# Altium footprint library PCB1.PcbLib: 50 footprints (part 3 of 4)
Each footprint in its own frame and in the unit in brackets; x right, y up, seen from the top. Pads: shape width x height; smd on the part's side, far side on the other; paste and mask are expansions set on the pad; w line width, h text height; cw(c..) or ccw(c..) is an arc to the next point about the centre after c.
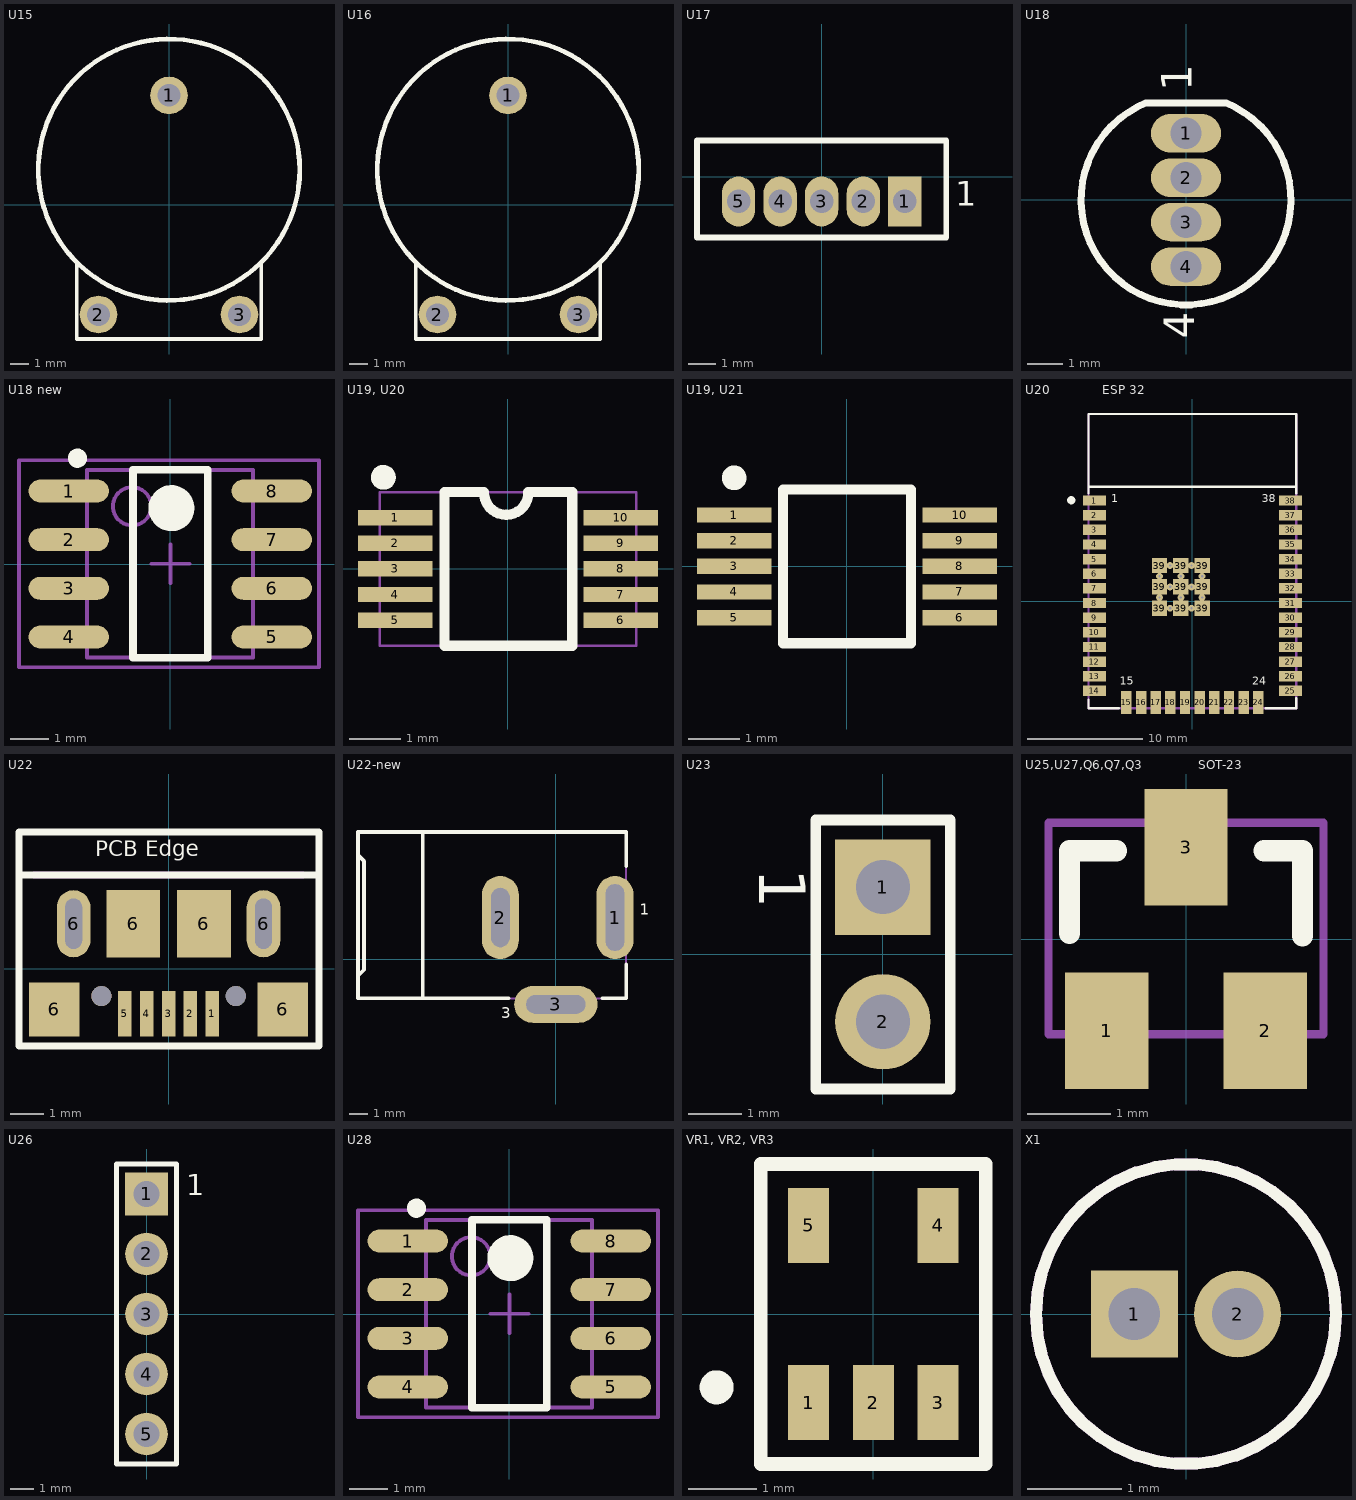
[diagram p2: the footprints below, top view; thin cyan lines are the x and y axes]

## U15 [mm]
height 2.4
pads (3):
  round 2 hole 1.2: 1(0,5.825) 2(-3.75,-5.825) 3(3.75,-5.825)
Top Overlay:
  circle w0.25: c0,1.875 r6.95
  lines w0.2: -4.9,-3.05 -4.9,-7.125 4.9,-7.125 4.9,-3.05

## U16 [mm] "Connector; Header; 9 Position"
height 2.4
pads (3):
  round 2 hole 1.2: 1(0,5.825) 2(-3.75,-5.825) 3(3.75,-5.825)
Top Overlay:
  circle w0.25: c0,1.875 r6.95
  lines w0.2: -4.9,-3.05 -4.9,-7.125 4.9,-7.125 4.9,-3.05

## U17 [mm]
pads (5):
  rect 1.2x1.8 hole 0.85: 1(3,-0.9)
  oval 1.2x1.8 hole 0.85: 2(1.5,-0.9) 3(0,-0.9) 4(-1.5,-0.9) 5(-3,-0.9)
Top Overlay:
  lines w0.2: -4.5,-2.2 4.5,-2.2 4.5,1.3 -4.5,1.3 -4.5,-2.2
  text "1" at 4.825,-1.35 h1.5

## U18 [mm]
height 2.4
pads (4):
  oval 2x1.1 hole 0.9 mask+0.07: 1(0,1.905) 2(0,0.635) 3(0,-0.635) 4(0,-1.905)
Top Overlay:
  lines w0.2: -1.144,2.773 ccw(c0,0) 1.144,2.773 -1.144,2.773
  text "4" at 0.525,-3.975 h1.5
  text "1" at 0.45,3.1 h1.5

## U18 new [mm]
height 1.75
pads (8):
  oval 2.1x0.6 smd: 1(-2.65,1.905) 2(-2.65,0.635) 3(-2.65,-0.635) 4(-2.65,-1.905) 5(2.65,-1.905) 6(2.65,-0.635) 7(2.65,0.635) 8(2.65,1.905)
Top Overlay:
  circle w0.25: c-2.423,2.761 r0.125
  circle w0.6: c0.027,1.456 r0.3
  lines w0.2: -0.973,-2.444 -0.973,2.456 0.977,2.456 0.977,-2.444 -0.973,-2.444
Mechanical 13:
  circle w0.1: c-0.998,1.506 r0.5
  lines w0.1: -2.174,-2.444 -2.174,2.456 2.16,2.456 2.16,-2.444 -2.174,-2.444
Mechanical 15:
  lines w0.1: -0.498,0.006 0.502,0.006 ; 0.002,-0.494 0.002,0.506 ; -3.949,-2.694 -3.949,2.706 3.881,2.706 3.881,-2.694 -3.949,-2.694
3D body: height 1.7, standoff 0.1, extent -2.995,-2.45 2.995,2.45

## U19, U20 [mm]
pads (10):
  rect 1.45x0.3 smd mask+0.08: 1(-2.2,1) 2(-2.2,0.5) 3(-2.2,0) 4(-2.2,-0.5) 5(-2.2,-1) 6(2.2,-1) 7(2.2,-0.5) 8(2.2,0) 9(2.2,0.5) 10(2.2,1)
Top Overlay:
  circle w0.254: c-2.43,1.786 r0.116
  lines w0.2: -0.466,1.481 ccw(c-0.035,1.485) 0.396,1.485 ; -0.466,1.5 -1.24,1.5 -1.24,-1.5 1.255,-1.5 1.255,1.499 0.396,1.499
Mechanical 13:
  lines w0.05: -2.5,-1.498 -2.5,1.499 2.5,1.499 2.5,-1.498 -2.5,-1.498

## U19, U21 [mm]
height 2.4
pads (10):
  rect 1.45x0.3 smd mask+0.07: 1(-2.2,1) 2(-2.2,0.5) 3(-2.2,0) 4(-2.2,-0.5) 5(-2.2,-1) 6(2.2,-1) 7(2.2,-0.5) 8(2.2,0) 9(2.2,0.5) 10(2.2,1)
Top Overlay:
  circle w0.3: c-2.2,1.725 r0.09
  lines w0.2: -1.25,-1.5 -1.25,1.5 1.25,1.5 1.25,-1.5 -1.25,-1.5

## U20             ESP 32 [mm]
height 2.4
pads (47):
  rect 2x0.9 smd: 1(-8.5,8.755) 2(-8.5,7.485) 3(-8.5,6.215) 4(-8.5,4.945) 5(-8.5,3.675) 6(-8.5,2.405) 7(-8.5,1.135) 8(-8.5,-0.135) 9(-8.5,-1.405) 10(-8.5,-2.675) 11(-8.5,-3.945) 12(-8.5,-5.215) 13(-8.5,-6.485) 14(-8.5,-7.755) 25(8.5,-7.755) 26(8.5,-6.485) 27(8.5,-5.215) 28(8.5,-3.945) 29(8.5,-2.675) 30(8.5,-1.405) 31(8.5,-0.135) 32(8.5,1.135) 33(8.5,2.405) 34(8.5,3.675) 35(8.5,4.945) 36(8.5,6.215) 37(8.5,7.485) 38(8.5,8.755)
  rect 0.9x2 smd: 15(-5.715,-8.755) 16(-4.445,-8.755) 17(-3.175,-8.755) 18(-1.905,-8.755) 19(-0.635,-8.755) 20(0.635,-8.755) 21(1.905,-8.755) 22(3.175,-8.755) 23(4.445,-8.755) 24(5.715,-8.755)
  rect 1.33x1.33 smd: 39(-2.85,-0.585) 39(-2.85,1.265) 39(-2.85,3.115) 39(-1,-0.585) 39(-1,1.265) 39(-1,3.115) 39(0.85,-0.585) 39(0.85,1.265) 39(0.85,3.115)
via 0.85,0.34 diameter 0.6 hole 0.2
via 0.85,2.19 diameter 0.6 hole 0.2
via -2.85,2.19 diameter 0.6 hole 0.2
via -2.85,0.34 diameter 0.6 hole 0.2
via -1.925,-0.585 diameter 0.6 hole 0.2
via -0.075,-0.585 diameter 0.6 hole 0.2
via -0.075,3.115 diameter 0.6 hole 0.2
via -1.925,3.115 diameter 0.6 hole 0.2
via -1,0.34 diameter 0.6 hole 0.2
via -1.925,1.265 diameter 0.6 hole 0.2
via -1,2.19 diameter 0.6 hole 0.2
via -0.075,1.265 diameter 0.6 hole 0.2
Top Overlay:
  circle w0.5: c-10.5,8.78 r0.1
  lines w0.2: -9,-8.495 -9,-9.255 -6.375,-9.255 ; -9,9.38 -9,16.255 9,16.255 9,9.38 ; -9,9.955 8.985,9.955 ; 6.375,-9.255 9,-9.255 ; 9,-9.245 9,-8.395
  text "1" at -7.025,8.355 h1.2
  text "15" at -6.275,-7.475 h1.2
  text "24" at 5.175,-7.489 h1.2
  text "38" at 6,8.355 h1.2
Mechanical 13:
  lines w0.2: -9,16.255 -9,-9.255 9,-9.255 9,16.255
3D body: height 3.2, standoff 0.16, extent -9.06,-9.285 9.01,16.255

## U22 [mm]
height 2.4
pads (13):
  rect 0.4x1.35 smd: 1(1.3,-1.337) 2(0.65,-1.337) 3(0,-1.337) 4(-0.65,-1.337) 5(-1.3,-1.337)
  rect 1.5x1.6 smd: 6(-3.4,-1.212) 6(3.4,-1.212)
  oval 1x2 hole 0.5 slot 1.5 at 90 deg: 6(-2.825,1.337) 6(2.825,1.337)
  rect 1.6x2 smd: 6(-1.05,1.338) 6(1.05,1.338)
  round 0.6 hole 0.6 unplated: ""(-2,-0.813) ""(2,-0.813)
Top Overlay:
  lines w0.2: -4.45,2.787 4.475,2.787 ; -4.45,-2.3 4.475,-2.3 4.475,4.067 -4.45,4.067 -4.45,-2.3
  text "PCB Edge" at -2.175,3.175 h0.8
Mechanical 13:
  lines w0.2: -4,2.787 4,2.787

## U22-new [mm]
pads (3):
  oval 2x4.5 hole 1 slot 3.6 at 90 deg: 1(3.2,2.25)
  oval 2x4.5 hole 1 slot 3.2 at 90 deg: 2(-3,2.25)
  oval 4.5x2 hole 1 slot 3.2 at 0 deg: 3(0,-2.45)
Top Overlay:
  lines w0.2: -10.7,-0.9 -10.375,-0.575 -10.375,5.3 -10.7,5.625 ; -7.2,-2.125 -7.2,6.875 ; -2.55,-2.125 -10.7,-2.125 -10.7,6.875 3.8,6.875 3.8,5.025 ; 2.525,-2.125 3.8,-2.125 3.8,-0.275
  text "1" at 4.525,2.175 h1
  text "3" at -2.95,-3.425 h1
Mechanical 13:
  lines w0.1: -10.7,-2.125 -10.7,6.875 3.8,6.875 3.8,-2.125 -10.7,-2.125
3D body "CUI_PJ-002BH.step": height 11.05, standoff -3.45, extent -10.724,-2.532 3.676,6.868

## U23 [mm]
height 2.4
pads (2):
  rect 1.8x1.8 hole 1.02: 1(0,1.27)
  round 1.8 hole 1.02: 2(0,-1.27)
Top Overlay:
  lines w0.2: -1.27,-2.54 -1.27,2.54 1.27,2.54 1.27,-2.54 -1.27,-2.54
  text "1" at -2.625,1.625 h1.5

## U25,U27,Q6,Q7,Q3              SOT-23 [mm]
height 2.4
pads (3):
  rect 1x1.4 smd: 1(-0.95,-1.1) 2(0.95,-1.1) 3(0,1.1)
Top Overlay:
  lines w0.254: -1.397,0.067 -1.397,1.059 -0.833,1.059 ; 0.935,1.059 1.397,1.059 1.397,0.035
Mechanical 13:
  lines w0.1: -1.651,-1.143 1.651,-1.143 1.651,1.397 -1.651,1.397 -1.651,-1.143
3D body: height 1.55, standoff 0.45, extent -1.5,-1.25 1.5,1.25

## U26 [mm]
height 2.4
pads (5):
  rect 1.8x1.8 hole 1.1: 1(0,5.08)
  round 1.8 hole 1.1: 2(0,2.54) 3(0,0) 4(0,-2.54) 5(0,-5.08)
Top Overlay:
  lines w0.2: -1.27,-6.35 -1.27,6.35 1.27,6.35 1.27,-6.35 -1.27,-6.35
  text "1" at 1.675,4.725 h1.5
3D body: height 9.07, standoff -2.47, extent -1.27,-6.35 1.27,6.35

## U28 [mm]
pads (8):
  oval 2.1x0.6 smd: 1(-2.65,1.905) 2(-2.65,0.635) 3(-2.65,-0.635) 4(-2.65,-1.905) 5(2.65,-1.905) 6(2.65,-0.635) 7(2.65,0.635) 8(2.65,1.905)
Top Overlay:
  circle w0.25: c-2.423,2.761 r0.125
  circle w0.6: c0.027,1.456 r0.3
  lines w0.2: -0.973,-2.444 -0.973,2.456 0.977,2.456 0.977,-2.444 -0.973,-2.444
Mechanical 13:
  circle w0.1: c-0.998,1.506 r0.5
  lines w0.1: -2.174,-2.444 -2.174,2.456 2.16,2.456 2.16,-2.444 -2.174,-2.444
Mechanical 15:
  lines w0.1: -0.498,0.006 0.502,0.006 ; 0.002,-0.494 0.002,0.506 ; -3.949,-2.694 -3.949,2.706 3.881,2.706 3.881,-2.694 -3.949,-2.694
3D body: height 1.7, standoff 0.1, extent -2.995,-2.45 2.995,2.45

## VR1, VR2, VR3 [mm] "SOT-23/SC-74A; 5 Leads; Body 3 x 3 mm, inc. leads (LxW max)"
height 1.45
pads (5):
  rect 0.6x1.1 smd: 1(-0.95,-1.3) 2(0,-1.3) 3(0.95,-1.3) 4(0.95,1.3) 5(-0.95,1.3)
Top Overlay:
  circle w0.25: c-2.3,-1.075 r0.125
  lines w0.2: -1.65,-2.2 -1.65,2.2 1.65,2.2 1.65,-2.2 -1.65,-2.2
3D body: height 1.15, standoff 0.05, extent -1.5,-1.25 1.5,1.25

## X1 [mm]
pads (2):
  rect 0.925x0.925 hole 0.55: 1(-0.55,0)
  round 0.925 hole 0.55: 2(0.55,0)
Top Overlay:
  circle w0.127: c0,0 r1.6
Mechanical 4:
  circle w0.127: c0,0 r1.6
  circle w0.127: c0,0 r1.6